# Altium schematic symbol library Receiver.SCHLIB: 3 symbols
Pins are listed as number, name and electrical type; pins without a type are passive.

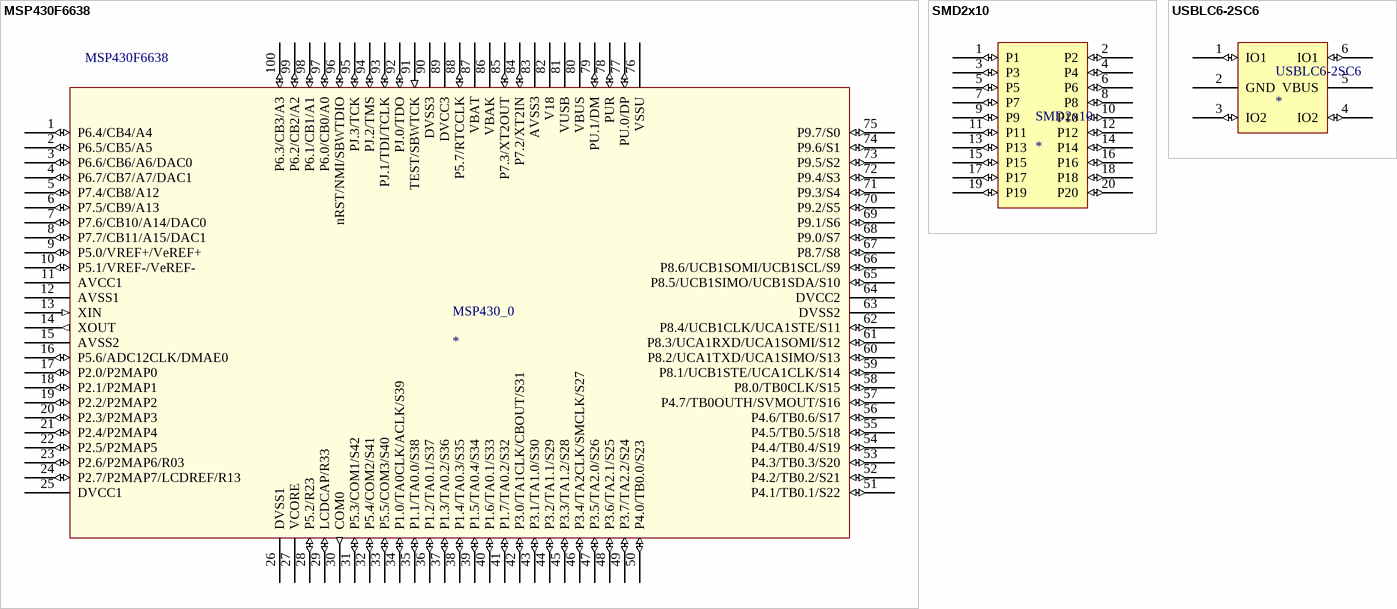
[diagram p0: symbols MSP430F6638 to USBLC6-2SC6]

## MSP430F6638
designator MSP430_0
footprint PZ100_L (100-Pin Thin Quad Flat Pack 0.5 mm Pitch, IPC High Density)
pins: 1 P6.4/CB4/A4 (io), 2 P6.5/CB5/A5 (io), 3 P6.6/CB6/A6/DAC0 (io), 4 P6.7/CB7/A7/DAC1 (io), 5 P7.4/CB8/A12 (io), 6 P7.5/CB9/A13 (io), 7 P7.6/CB10/A14/DAC0 (io), 8 P7.7/CB11/A15/DAC1 (io), 9 P5.0/VREF+/VeREF+ (io), 10 P5.1/VREF-/VeREF- (io), 11 AVCC1 (power), 12 AVSS1 (power), 13 XIN (in), 14 XOUT (out), 15 AVSS2 (power), 16 P5.6/ADC12CLK/DMAE0 (io), 17 P2.0/P2MAP0 (io), 18 P2.1/P2MAP1 (io), 19 P2.2/P2MAP2 (io), 20 P2.3/P2MAP3 (io), 21 P2.4/P2MAP4 (io), 22 P2.5/P2MAP5 (io), 23 P2.6/P2MAP6/R03 (io), 24 P2.7/P2MAP7/LCDREF/R13 (io), 25 DVCC1 (power), 26 DVSS1 (power), 27 VCORE (power), 28 P5.2/R23 (io), 29 LCDCAP/R33 (io), 30 COM0 (out), 31 P5.3/COM1/S42 (io), 32 P5.4/COM2/S41 (io), 33 P5.5/COM3/S40 (io), 34 P1.0/TA0CLK/ACLK/S39 (io), 35 P1.1/TA0.0/S38 (io), 36 P1.2/TA0.1/S37 (io), 37 P1.3/TA0.2/S36 (io), 38 P1.4/TA0.3/S35 (io), 39 P1.5/TA0.4/S34 (io), 40 P1.6/TA0.1/S33 (io), 41 P1.7/TA0.2/S32 (io), 42 P3.0/TA1CLK/CBOUT/S31 (io), 43 P3.1/TA1.0/S30 (io), 44 P3.2/TA1.1/S29 (io), 45 P3.3/TA1.2/S28 (io), 46 P3.4/TA2CLK/SMCLK/S27 (io), 47 P3.5/TA2.0/S26 (io), 48 P3.6/TA2.1/S25 (io), 49 P3.7/TA2.2/S24 (io), 50 P4.0/TB0.0/S23 (io), 51 P4.1/TB0.1/S22 (io), 52 P4.2/TB0.2/S21 (io), 53 P4.3/TB0.3/S20 (io), 54 P4.4/TB0.4/S19 (io), 55 P4.5/TB0.5/S18 (io), 56 P4.6/TB0.6/S17 (io), 57 P4.7/TB0OUTH/SVMOUT/S16 (io), 58 P8.0/TB0CLK/S15 (io), 59 P8.1/UCB1STE/UCA1CLK/S14 (io), 60 P8.2/UCA1TXD/UCA1SIMO/S13 (io), 61 P8.3/UCA1RXD/UCA1SOMI/S12 (io), 62 P8.4/UCB1CLK/UCA1STE/S11 (io), 63 DVSS2 (power), 64 DVCC2 (power), 65 P8.5/UCB1SIMO/UCB1SDA/S10 (io), 66 P8.6/UCB1SOMI/UCB1SCL/S9 (io), 67 P8.7/S8 (io), 68 P9.0/S7 (io), 69 P9.1/S6 (io), 70 P9.2/S5 (io), 71 P9.3/S4 (io), 72 P9.4/S3 (io), 73 P9.5/S2 (io), 74 P9.6/S1 (io), 75 P9.7/S0 (io), 76 VSSU (power), 77 PU.0/DP (io), 78 PUR (io), 79 PU.1/DM (io), 80 VBUS (power), 81 VUSB (power), 82 V18 (power), 83 AVSS3 (power), 84 P7.2/XT2IN (io), 85 P7.3/XT2OUT (io), 86 VBAK (power), 87 VBAT (power), 88 P5.7/RTCCLK (io), 89 DVCC3 (power), 90 DVSS3 (power), 91 TEST/SBWTCK (in), 92 PJ.0/TDO (io), 93 PJ.1/TDI/TCLK (io), 94 PJ.2/TMS (io), 95 PJ.3/TCK (io), 96 nRST/NMI/SBWTDIO (io), 97 P6.0/CB0/A0 (io), 98 P6.1/CB1/A1 (io), 99 P6.2/CB2/A2 (io), 100 P6.3/CB3/A3 (io)

## SMD2x10
designator SMD2x10
footprint MHDR2X10 (Connector; Header; 10x2 Position)
pins: 1 P1 (io), 2 P2 (io), 3 P3 (io), 4 P4 (io), 5 P5 (io), 6 P6 (io), 7 P7 (io), 8 P8 (io), 9 P9 (io), 10 P10 (io), 11 P11 (io), 12 P12 (io), 13 P13 (io), 14 P14 (io), 15 P15 (io), 16 P16 (io), 17 P17 (io), 18 P18 (io), 19 P19 (io), 20 P20 (io)

## USBLC6-2SC6
designator USBLC6-2SC6
footprint SOT23-6_L (SOT23, 6-Leads, Body 2.9x1.6mm, Pitch 0.95mm, Lead Span 2.7mm, IPC High Density)
pins: 1 IO1 (io), 2 GND (power), 3 IO2 (io), 4 IO2 (io), 5 VBUS (power), 6 IO1 (io)